# EAGLE library part DANDANATOR-CPC-MX4-V1.2-RWD_XC9572XL_44PLCC (library RWD 1Mb RAM Memory CPC v2_0)
xc9536_pc44 XC9500 In-System Programmable CPLD Family Auto generated by make-symbol-device-package-bsdl.ulp Rev. 34 Source: xc9536_pc44.bsd
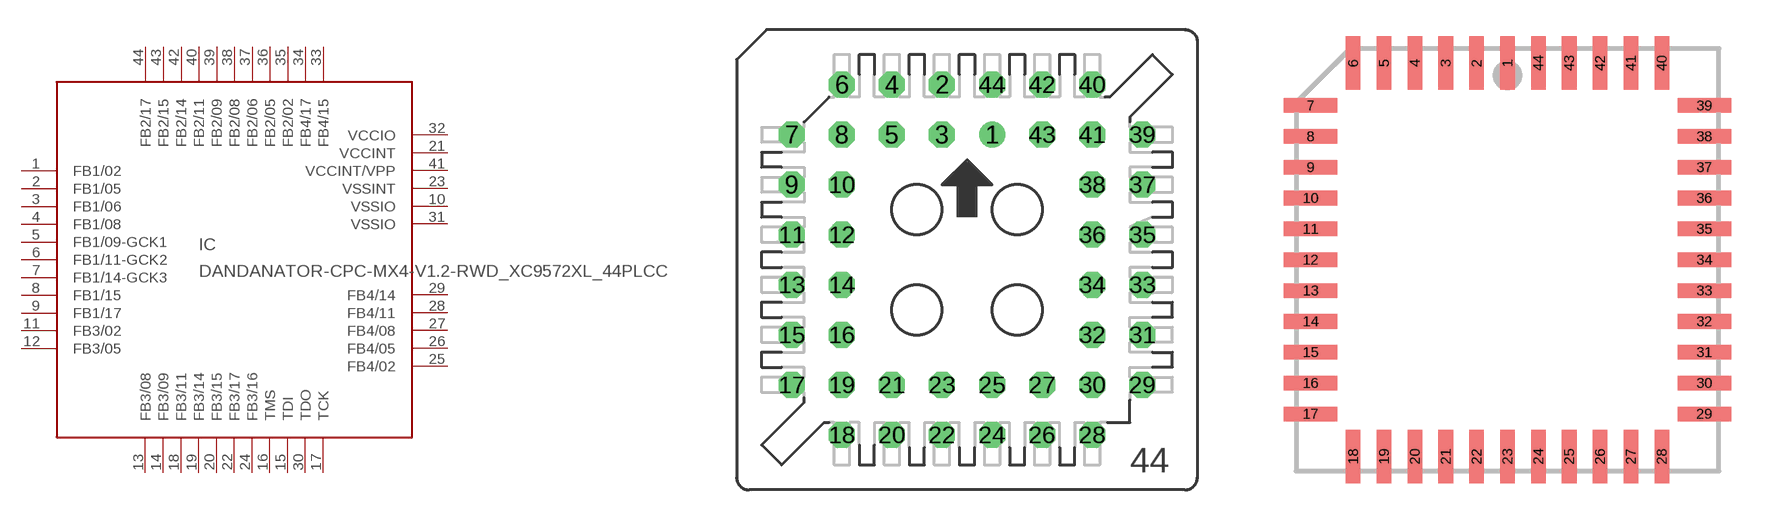
[diagram p1: symbol with the pads of DANDANATOR-CPC-MX4-V1.2-RWD_S44; footprints DANDANATOR-CPC-MX4-V1.2-RWD_S44, DANDANATOR-CPC-MX4-V1.2-RWD_PLCC44]

Designator prefix IC

## DANDANATOR-CPC-MX4-V1.2-RWD_XC9572XL_44PLCCDIP  [DANDANATOR-CPC-MX4-V1.2-RWD_S44]
1  FB1/02
2  FB1/05
3  FB1/06
4  FB1/08
5  FB1/09-GCK1
6  FB1/11-GCK2
7  FB1/14-GCK3
8  FB1/15
9  FB1/17
10  VSSIO  pwr
11  FB3/02
12  FB3/05
13  FB3/08
14  FB3/09
15  TDI  in
16  TMS  in
17  TCK  in
18  FB3/11
19  FB3/14
20  FB3/15
21  VCCINT  pwr
22  FB3/17
23  VSSINT  pwr
24  FB3/16
25  FB4/02
26  FB4/05
27  FB4/08
28  FB4/11
29  FB4/14
30  TDO  out
31  VSSIO  pwr
32  VCCIO  pwr
33  FB4/15
34  FB4/17
35  FB2/02
36  FB2/05
37  FB2/06
38  FB2/08
39  FB2/09
40  FB2/11
41  VCCINT/VPP  in
42  FB2/14
43  FB2/15
44  FB2/17

## DANDANATOR-CPC-MX4-V1.2-RWD_XC9572XL_44PLCCSMD (MPN: XC9536-15PCG44C; OC_FARNELL: 1193226; OC_NEWARK: 98K3376)  [DANDANATOR-CPC-MX4-V1.2-RWD_PLCC44]
Pads as for DANDANATOR-CPC-MX4-V1.2-RWD_S44

## Footprint DANDANATOR-CPC-MX4-V1.2-RWD_S44 (pad centres in mm)
PLCC SOCKET
drill 0.813: 1 1.27,6.35
drill 0.813 octagon: 2 -1.27,8.89; 3 -1.27,6.35; 4 -3.81,8.89; 5 -3.81,6.35; 6 -6.35,8.89; 7 -8.89,6.35; 8 -6.35,6.35; 9 -8.89,3.81; 10 -6.35,3.81; 11 -8.89,1.27; 12 -6.35,1.27; 13 -8.89,-1.27; 14 -6.35,-1.27; 15 -8.89,-3.81; 16 -6.35,-3.81; 17 -8.89,-6.35; 18 -6.35,-8.89; 19 -6.35,-6.35; 20 -3.81,-8.89; 21 -3.81,-6.35; 22 -1.27,-8.89; 23 -1.27,-6.35; 24 1.27,-8.89; 25 1.27,-6.35; 26 3.81,-8.89; 27 3.81,-6.35; 28 6.35,-8.89; 29 8.89,-6.35; 30 6.35,-6.35; 31 8.89,-3.81; 32 6.35,-3.81; 33 8.89,-1.27; 34 6.35,-1.27; 35 8.89,1.27; 36 6.35,1.27; 37 8.89,3.81; 38 6.35,3.81; 39 8.89,6.35; 40 6.35,8.89; 41 6.35,6.35; 42 3.81,8.89; 43 3.81,6.35; 44 1.27,8.89

## Footprint DANDANATOR-CPC-MX4-V1.2-RWD_PLCC44 (pad centres in mm)
PLASTIC LEADED CHIP CARRIER square
smd 0.6 x 2.2: 1 0,8.1; 2 -1.27,8.1; 3 -2.54,8.1; 4 -3.81,8.1; 5 -5.08,8.1; 6 -6.35,8.1; 18 -6.35,-8.1; 19 -5.08,-8.1; 20 -3.81,-8.1; 21 -2.54,-8.1; 22 -1.27,-8.1; 23 0,-8.1; 24 1.27,-8.1; 25 2.54,-8.1; 26 3.81,-8.1; 27 5.08,-8.1; 28 6.35,-8.1; 40 6.35,8.1; 41 5.08,8.1; 42 3.81,8.1; 43 2.54,8.1; 44 1.27,8.1
smd 2.2 x 0.6: 7 -8.1,6.35; 8 -8.1,5.08; 9 -8.1,3.81; 10 -8.1,2.54; 11 -8.1,1.27; 12 -8.1,0; 13 -8.1,-1.27; 14 -8.1,-2.54; 15 -8.1,-3.81; 16 -8.1,-5.08; 17 -8.1,-6.35; 29 8.1,-6.35; 30 8.1,-5.08; 31 8.1,-3.81; 32 8.1,-2.54; 33 8.1,-1.27; 34 8.1,0; 35 8.1,1.27; 36 8.1,2.54; 37 8.1,3.81; 38 8.1,5.08; 39 8.1,6.35